# Altium schematic symbol library Conn,Pwr Ent,Rcpt,IEC320,Male,Pnl Mnt,90Deg.Schlib: 1 symbol
Pins are listed as number, name and electrical type; pins without a type are passive.

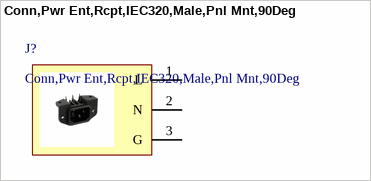
[diagram p0: symbol Conn,Pwr Ent,Rcpt,IEC320,Male,Pnl Mnt,90Deg]

## Conn,Pwr Ent,Rcpt,IEC320,Male,Pnl Mnt,90Deg
designator J?
Power Entry Connector Receptacle, Male Blades IEC 320-C14 Panel Mount, Flange; Through Hole, Right Angle
pins: 1 L, 2 N, 3 G